# Altium footprint library IC-FootPrint.PcbLib: 9 footprints
Each footprint in its own frame and in the unit in brackets; x right, y up, seen from the top. Pads: shape width x height; smd on the part's side, far side on the other; paste and mask are expansions set on the pad; w line width, h text height; cw(c..) or ccw(c..) is an arc to the next point about the centre after c.
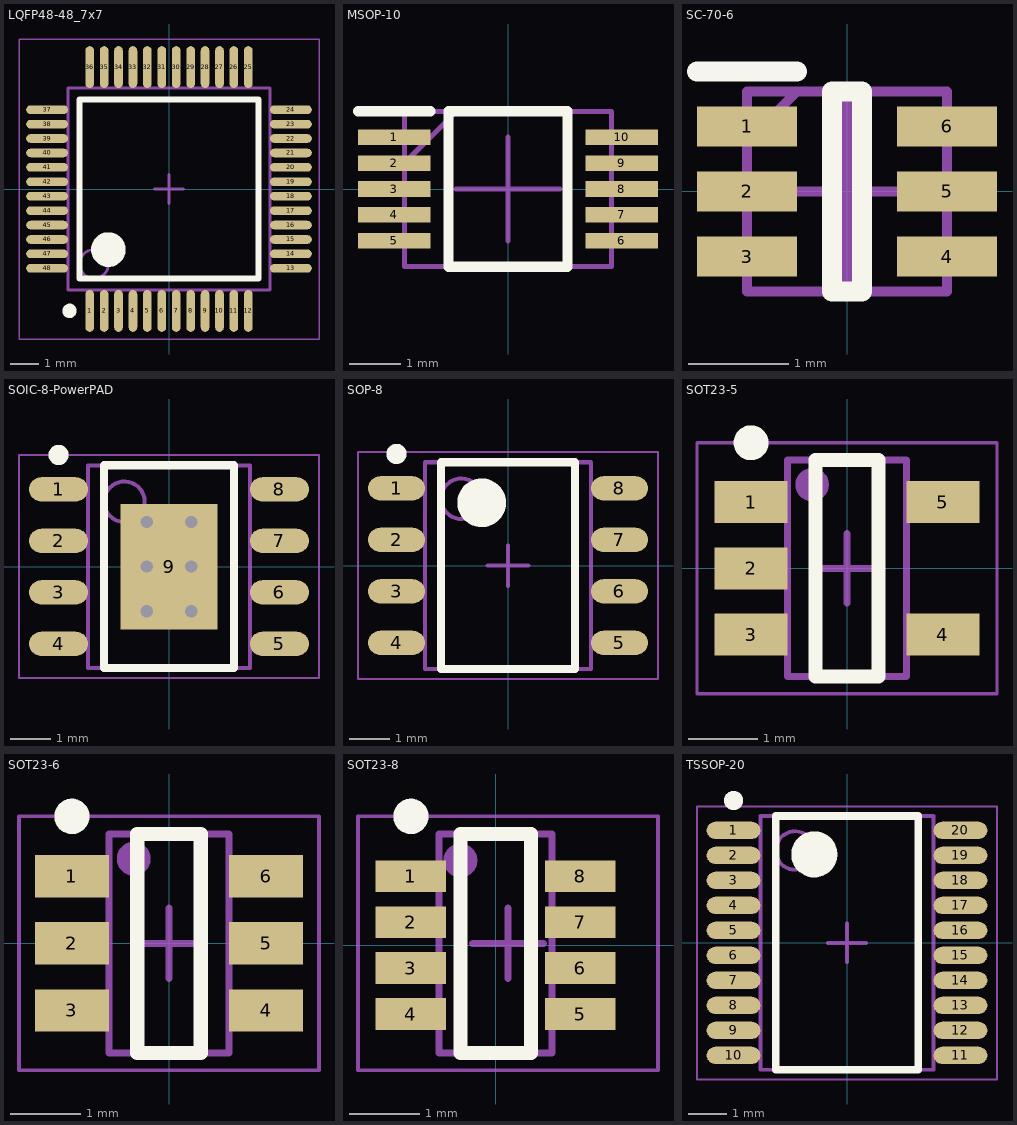
[diagram p0: the footprints below, top view; thin cyan lines are the x and y axes]

## LQFP48-48_7x7 [mm] "TSQFP, 48-Leads, Body 7.00x7.00mm, Pitch 0.50mm, IPC Medium Density"
height 1.6
pads (48):
  oval 0.3x1.45 smd: 1(-2.75,-4.225) 2(-2.25,-4.225) 3(-1.75,-4.225) 4(-1.25,-4.225) 5(-0.75,-4.225) 6(-0.25,-4.225) 7(0.25,-4.225) 8(0.75,-4.225) 9(1.25,-4.225) 10(1.75,-4.225) 11(2.25,-4.225) 12(2.75,-4.225) 25(2.75,4.225) 26(2.25,4.225) 27(1.75,4.225) 28(1.25,4.225) 29(0.75,4.225) 30(0.25,4.225) 31(-0.25,4.225) 32(-0.75,4.225) 33(-1.25,4.225) 34(-1.75,4.225) 35(-2.25,4.225) 36(-2.75,4.225)
  oval 1.45x0.3 smd: 13(4.225,-2.75) 14(4.225,-2.25) 15(4.225,-1.75) 16(4.225,-1.25) 17(4.225,-0.75) 18(4.225,-0.25) 19(4.225,0.25) 20(4.225,0.75) 21(4.225,1.25) 22(4.225,1.75) 23(4.225,2.25) 24(4.225,2.75) 37(-4.225,2.75) 38(-4.225,2.25) 39(-4.225,1.75) 40(-4.225,1.25) 41(-4.225,0.75) 42(-4.225,0.25) 43(-4.225,-0.25) 44(-4.225,-0.75) 45(-4.225,-1.25) 46(-4.225,-1.75) 47(-4.225,-2.25) 48(-4.225,-2.75)
Top Overlay:
  circle w0.25: c-3.45,-4.225 r0.125
  circle w0.6: c-2.1,-2.1 r0.3
  lines w0.2: -3.1,-3.1 3.1,-3.1 3.1,3.1 -3.1,3.1 -3.1,-3.1
Top Value:
  text "'.Comment'" at -2.634,-0.54 h2
Top Designator:
  text "'.Designator'" at -5.721,-0.419 h2
Top Courtyard:
  lines w0.05: -5.2,-5.2 5.2,-5.2 5.2,5.2 -5.2,5.2 -5.2,-5.2
  lines w0.1: -0.5,0 0.5,0 ; 0,-0.5 0,0.5
Top Assembly (Mech20):
  circle w0.1: c-2.6,-2.6 r0.5
  lines w0.1: -3.5,-3.5 3.5,-3.5 3.5,3.5 -3.5,3.5 -3.5,-3.5
3D body "LQFP48 7X7.STEP": height 1.45, standoff 0, extent -4.503,-4.506 4.503,4.5

## MSOP-10 [mm]
pads (10):
  rect 1.4x0.3 smd: 1(-2.2,1) 2(-2.2,0.5) 3(-2.2,0) 4(-2.2,-0.5) 5(-2.2,-1) 6(2.2,-1) 7(2.2,-0.5) 8(2.2,0) 9(2.2,0.5) 10(2.2,1)
Top Overlay:
  lines w0.2: -2.9,1.5 -1.5,1.5 ; -1.15,-1.5 1.15,-1.5 1.15,1.5 -1.15,1.5 -1.15,-1.5
Top Component Center:
  lines w0.1: -1,0 1,0 ; 0,-1 0,1
Top Value:
  text "'.Comment'" at -2.476,-0.342 h1.14
Top Designator:
  text "'.Designator'" at -3.648,-0.496 h1.27
Top Assembly (Mech20):
  lines w0.1: -2,0.5 -1,1.5 ; -2,-1.5 2,-1.5 2,1.5 -2,1.5 -2,-1.5
3D body "FSUSB42MUX.stp": height 1.1, standoff 0, extent -2.45,-1.5 2.45,1.5

## SC-70-6 [mm] "SC-70-6(SOT-363)"
pads (6):
  rect 1x0.4 smd: 1(-1,0.65) 2(-1,0) 3(-1,-0.65) 4(1,-0.65) 5(1,0) 6(1,0.65)
Top Overlay:
  lines w0.2: -1.5,1.2 -0.5,1.2 ; -0.15,-1 0.15,-1 0.15,1 -0.15,1 -0.15,-1
Top Component Center:
  lines w0.1: -1,0 1,0 ; 0,-1 0,1
Top Value:
  text "'.Comment'" at -2.476,-0.342 h1.14
Top Designator:
  text "'.Designator'" at -3.648,-0.496 h1.27
Top Assembly (Mech20):
  lines w0.1: -1,0.5 -0.5,1 -1,1 ; -1,1 1,1 1,-1 -1,-1 -1,1
3D body "BSS138DW-7-F.stp": height 1.1, standoff 0, extent -1.05,-1 1.05,1

## SOIC-8-PowerPAD [mm] "SOIC, 8-Leads, Body 4.90x3.90mm, Pitch 1.27mm, Thermal Pad 3.10x2.40mm, IPC Medium Density"
height 1.7
pads (9):
  oval 1.45x0.6 smd: 1(-2.725,1.905) 2(-2.725,0.635) 3(-2.725,-0.635) 4(-2.725,-1.905) 5(2.725,-1.905) 6(2.725,-0.635) 7(2.725,0.635) 8(2.725,1.905)
  rect 2.4x3.1 smd: 9(0,0)
via -0.55,1.1 diameter 0.6 hole 0.3
via 0.55,1.1 diameter 0.6 hole 0.3
via -0.55,0 diameter 0.6 hole 0.3
via 0.55,0 diameter 0.6 hole 0.3
via -0.55,-1.1 diameter 0.6 hole 0.3
via 0.55,-1.1 diameter 0.6 hole 0.3
Top Overlay:
  circle w0.25: c-2.725,2.755 r0.125
  lines w0.2: -1.6,-2.5 -1.6,2.5 1.6,2.5 1.6,-2.5 -1.6,-2.5
Top Value:
  text "'.Comment'" at -0.54,2.634 h2
Top Designator:
  text "'.Designator'" at -0.419,5.721 h2
Top Courtyard:
  lines w0.05: -3.7,-2.75 -3.7,2.75 3.7,2.75 3.7,-2.75 -3.7,-2.75
  lines w0.1: -0.5,0 0.5,0 ; 0,-0.5 0,0.5
Top Assembly (Mech20):
  circle w0.1: c-1.1,1.6 r0.5
  lines w0.1: -2,-2.5 -2,2.5 2,2.5 2,-2.5 -2,-2.5
3D body "MP1484EN-LF.stp": height 1.7, standoff 0, extent -3,-2.45 3,2.45

## SOP-8 [mm] "SOP, 8-Leads, Body 4.90x3.90mm, Pitch 1.27mm, IPC Medium Density"
height 1.77
pads (8):
  oval 1.4x0.6 smd: 1(-2.75,1.905) 2(-2.75,0.635) 3(-2.75,-0.635) 4(-2.75,-1.905) 5(2.75,-1.905) 6(2.75,-0.635) 7(2.75,0.635) 8(2.75,1.905)
Top Overlay:
  circle w0.6: c-0.65,1.55 r0.3
  circle w0.25: c-2.75,2.755 r0.125
  lines w0.2: -1.65,-2.55 1.65,-2.55 1.65,2.55 -1.65,2.55 -1.65,-2.55
Top Value:
  text "'.Comment'" at -0.54,2.634 h2
Top Designator:
  text "'.Designator'" at -0.419,5.721 h2
Top Courtyard:
  lines w0.05: -3.7,-2.8 3.7,-2.8 3.7,2.8 -3.7,2.8 -3.7,-2.8
  lines w0.1: -0.5,0 0.5,0 ; 0,-0.5 0,0.5
Top Assembly (Mech20):
  circle w0.1: c-1.15,1.65 r0.5
  lines w0.1: -2.05,-2.55 2.05,-2.55 2.05,2.55 -2.05,2.55 -2.05,-2.55
3D body "SOP8.STEP": height 1.9, standoff 0, extent -3.028,-2.464 2.977,2.536

## SOT23-5 [mm] "SOT23, 5-Leads, Body 2.90x2.80mm, Pitch 0.95mm, IPC Medium Density"
height 1.1
pads (5):
  rect 1.05x0.6 smd: 1(-1.375,0.95) 2(-1.375,0) 3(-1.375,-0.95) 4(1.375,-0.95) 5(1.375,0.95)
Top Overlay:
  circle w0.25: c-1.375,1.8 r0.125
  lines w0.2: -0.45,-1.55 -0.45,1.55 0.45,1.55 0.45,-1.55 -0.45,-1.55
Top Value:
  text "'.Comment'" at -0.406,1.978 h1.5
Top Designator:
  text "'.Designator'" at -0.314,4.296 h1.5
Top Courtyard:
  lines w0.05: -2.15,-1.8 2.15,-1.8 2.15,1.8 -2.15,1.8 -2.15,-1.8
  lines w0.1: -0.5,0 0.5,0 ; 0,-0.5 0,0.5
Top Assembly (Mech20):
  circle w0.24: c-0.5,1.2 r0.12
  lines w0.1: -0.85,-1.55 0.85,-1.55 0.85,1.55 -0.85,1.55 -0.85,-1.55
3D body "SOT23-5.STEP": height 1.15, standoff -0.03, extent -1.403,-1.524 1.403,1.476

## SOT23-6 [mm] "SOT23, 6-Leads, Body 2.95x2.85mm, Pitch 0.95mm, IPC Medium Density"
height 1.4
pads (6):
  rect 1.05x0.6 smd: 1(-1.375,0.95) 2(-1.375,0) 3(-1.375,-0.95) 4(1.375,-0.95) 5(1.375,0) 6(1.375,0.95)
Top Overlay:
  circle w0.25: c-1.375,1.8 r0.125
  lines w0.2: -0.45,-1.55 0.45,-1.55 0.45,1.55 -0.45,1.55 -0.45,-1.55
Top Value:
  text "'.Comment'" at -0.406,1.978 h1.5
Top Designator:
  text "'.Designator'" at -0.314,4.296 h1.5
Top Courtyard:
  lines w0.05: -2.125,-1.8 -2.125,1.8 2.125,1.8 2.125,-1.8 -2.125,-1.8
  lines w0.1: -0.5,0 0.5,0 ; 0,-0.5 0,0.5
Top Assembly (Mech20):
  circle w0.24: c-0.5,1.2 r0.12
  lines w0.1: -0.85,-1.55 -0.85,1.55 0.85,1.55 0.85,-1.55 -0.85,-1.55
3D body "SOT23-6.STEP": height 1.15, standoff -0.03, extent -1.432,-1.5 1.375,1.5

## SOT23-8 [mm]
height 1.4
pads (8):
  rect 1x0.45 smd: 1(-1.2,0.975) 2(-1.2,0.325) 3(-1.2,-0.325) 4(-1.2,-0.975) 5(1.2,-0.975) 6(1.2,-0.325) 7(1.2,0.325) 8(1.2,0.975)
Top Overlay:
  circle w0.25: c-1.2,1.825 r0.125
  lines w0.2: -0.5,-1.525 0.5,-1.525 0.5,1.575 -0.5,1.575 -0.5,-1.525
Top Value:
  text "'.Comment'" at -0.231,2.003 h1.5
Top Designator:
  text "'.Designator'" at -0.139,4.321 h1.5
Top Courtyard:
  lines w0.05: -1.95,-1.775 -1.95,1.825 2.3,1.825 2.3,-1.775 -1.95,-1.775
  lines w0.1: -0.325,0.025 0.675,0.025 ; 0.175,-0.475 0.175,0.525
Top Assembly (Mech20):
  circle w0.24: c-0.5,1.2 r0.12
  lines w0.1: -0.8,-1.525 -0.8,1.575 0.8,1.575 0.8,-1.525 -0.8,-1.525
3D body "SOT23-8.STEP": height 1.15, standoff 0, extent -1.403,-1.507 1.403,1.493

## TSSOP-20 [mm] "TSOP, 20-Leads, Body 6.50x4.40mm, Pitch 0.65mm, IPC Medium Density"
height 1.2
pads (20):
  oval 1.4x0.45 smd: 1(-2.95,2.925) 2(-2.95,2.275) 3(-2.95,1.625) 4(-2.95,0.975) 5(-2.95,0.325) 6(-2.95,-0.325) 7(-2.95,-0.975) 8(-2.95,-1.625) 9(-2.95,-2.275) 10(-2.95,-2.925) 11(2.95,-2.925) 12(2.95,-2.275) 13(2.95,-1.625) 14(2.95,-0.975) 15(2.95,-0.325) 16(2.95,0.325) 17(2.95,0.975) 18(2.95,1.625) 19(2.95,2.275) 20(2.95,2.925)
Top Overlay:
  circle w0.6: c-0.85,2.3 r0.3
  circle w0.25: c-2.95,3.7 r0.125
  lines w0.2: -1.85,-3.3 1.85,-3.3 1.85,3.3 -1.85,3.3 -1.85,-3.3
Top Value:
  text "'.Comment'" at -0.406,1.978 h1.5
Top Designator:
  text "'.Designator'" at -0.314,4.296 h1.5
Top Courtyard:
  lines w0.05: -3.9,-3.55 3.9,-3.55 3.9,3.55 -3.9,3.55 -3.9,-3.55
  lines w0.1: -0.5,0 0.5,0 ; 0,-0.5 0,0.5
Top Assembly (Mech20):
  circle w0.1: c-1.35,2.4 r0.5
  lines w0.1: -2.25,-3.3 2.25,-3.3 2.25,3.3 -2.25,3.3 -2.25,-3.3
3D body "TSSOP20.STEP": height 1.03, standoff -0.02, extent -3.177,-3.25 3.227,3.25